# EAGLE library part MF2X4M (library gost_con_mini-fit)
Molex Mini-Fit Jr.™ Connectors
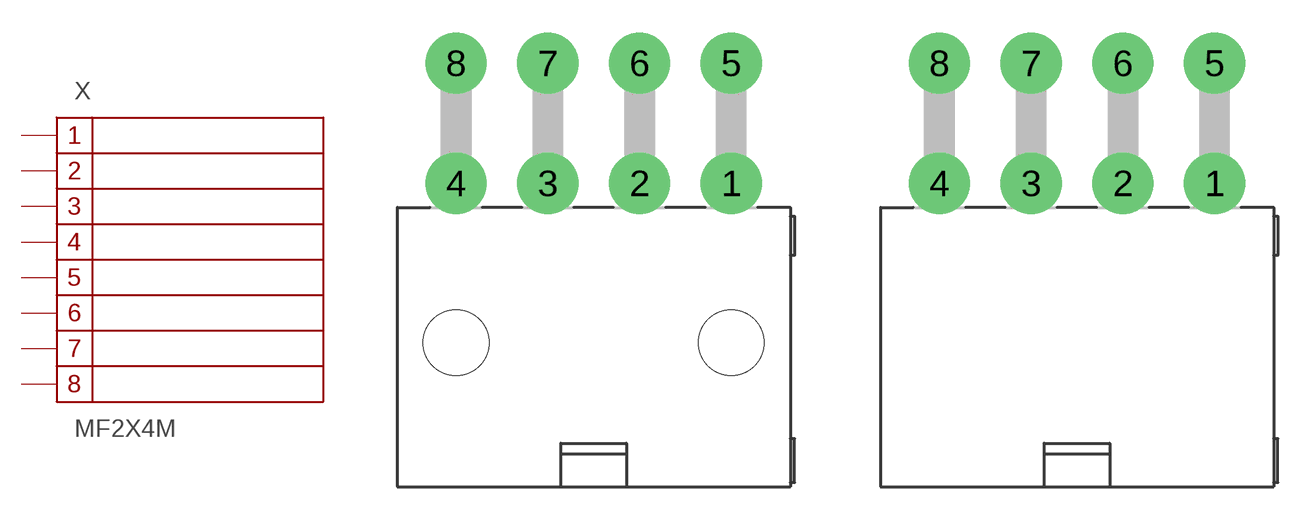
[diagram p1: symbol with the pads of MF2X4MRA; footprints MF2X4MRA, MF2X4MR]

Designator prefix X

## MF2X4MRA  [MF2X4MRA]
1  1
2  2
3  3
4  4
5  5
6  6
7  7
8  8

## MF2X4MR  [MF2X4MR]
Pads as for MF2X4MRA

## MF2X4MA  [MF2X4MA]
Pads as for MF2X4MRA

## MF2X4MRB  [MF2X4MRB]
Pads as for MF2X4MRA

## Footprint MF2X4MRA (pad centres in mm)
drill 1.8 pad 2.8: 1 6.3,-2.1; 2 2.1,-2.1; 3 -2.1,-2.1; 4 -6.3,-2.1; 5 6.3,3.4; 6 2.1,3.4; 7 -2.1,3.4; 8 -6.3,3.4
hole 3 at -6.3,-9.4
hole 3 at 6.3,-9.4

## Footprint MF2X4MR (pad centres in mm)
drill 1.8 pad 2.8: 1 6.3,-2.1; 2 2.1,-2.1; 3 -2.1,-2.1; 4 -6.3,-2.1; 5 6.3,3.4; 6 2.1,3.4; 7 -2.1,3.4; 8 -6.3,3.4

## Footprint MF2X4MA (pad centres in mm)
drill 1.4 pad 2.6: 1 6.3,-2.75; 2 2.1,-2.75; 3 -2.1,-2.75; 4 -6.3,-2.75; 5 6.3,2.75; 6 2.1,2.75; 7 -2.1,2.75; 8 -6.3,2.75

## Footprint MF2X4MRB (pad centres in mm)
drill 1.8 pad 2.8: 1 6.3,-2.1; 2 2.1,-2.1; 3 -2.1,-2.1; 4 -6.3,-2.1; 5 6.3,3.4; 6 2.1,3.4; 7 -2.1,3.4; 8 -6.3,3.4
hole 2.4 at 10.9,-6.3
hole 2.4 at -10.9,-6.3